# Altium schematic symbol library CONN-50mil-cortexM.SchLib: 1 symbol
Pins are listed as number, name and electrical type; pins without a type are passive.

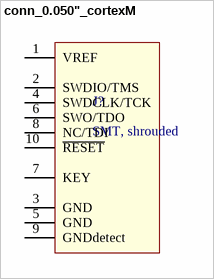
[diagram p0: symbol conn_0.050"_cortexM]

## conn_0.050"_cortexM
designator J?, comment SMT, shrouded
ARM Cortex-M 10pin connector,shrouded,SMT; Supplier 1: Digi-Key; Supplier Part Number 1: 1175-1629-ND
footprint CONN-50mil-10POS-SMD (50mil 10POS 2ROW SMT HEADER)
pins: 1 VREF, 2 SWDIO/TMS, 3 GND, 4 SWDCLK/TCK, 5 GND, 6 SWO/TDO, 7 KEY "Keying feature, no signal", 8 NC/TDI, 9 GNDdetect, 10 ~{RESET}